# Altium schematic symbol library UPS_Schlib.SchLib: 64 symbols
Pins are listed as number, name and electrical type; pins without a type are passive.

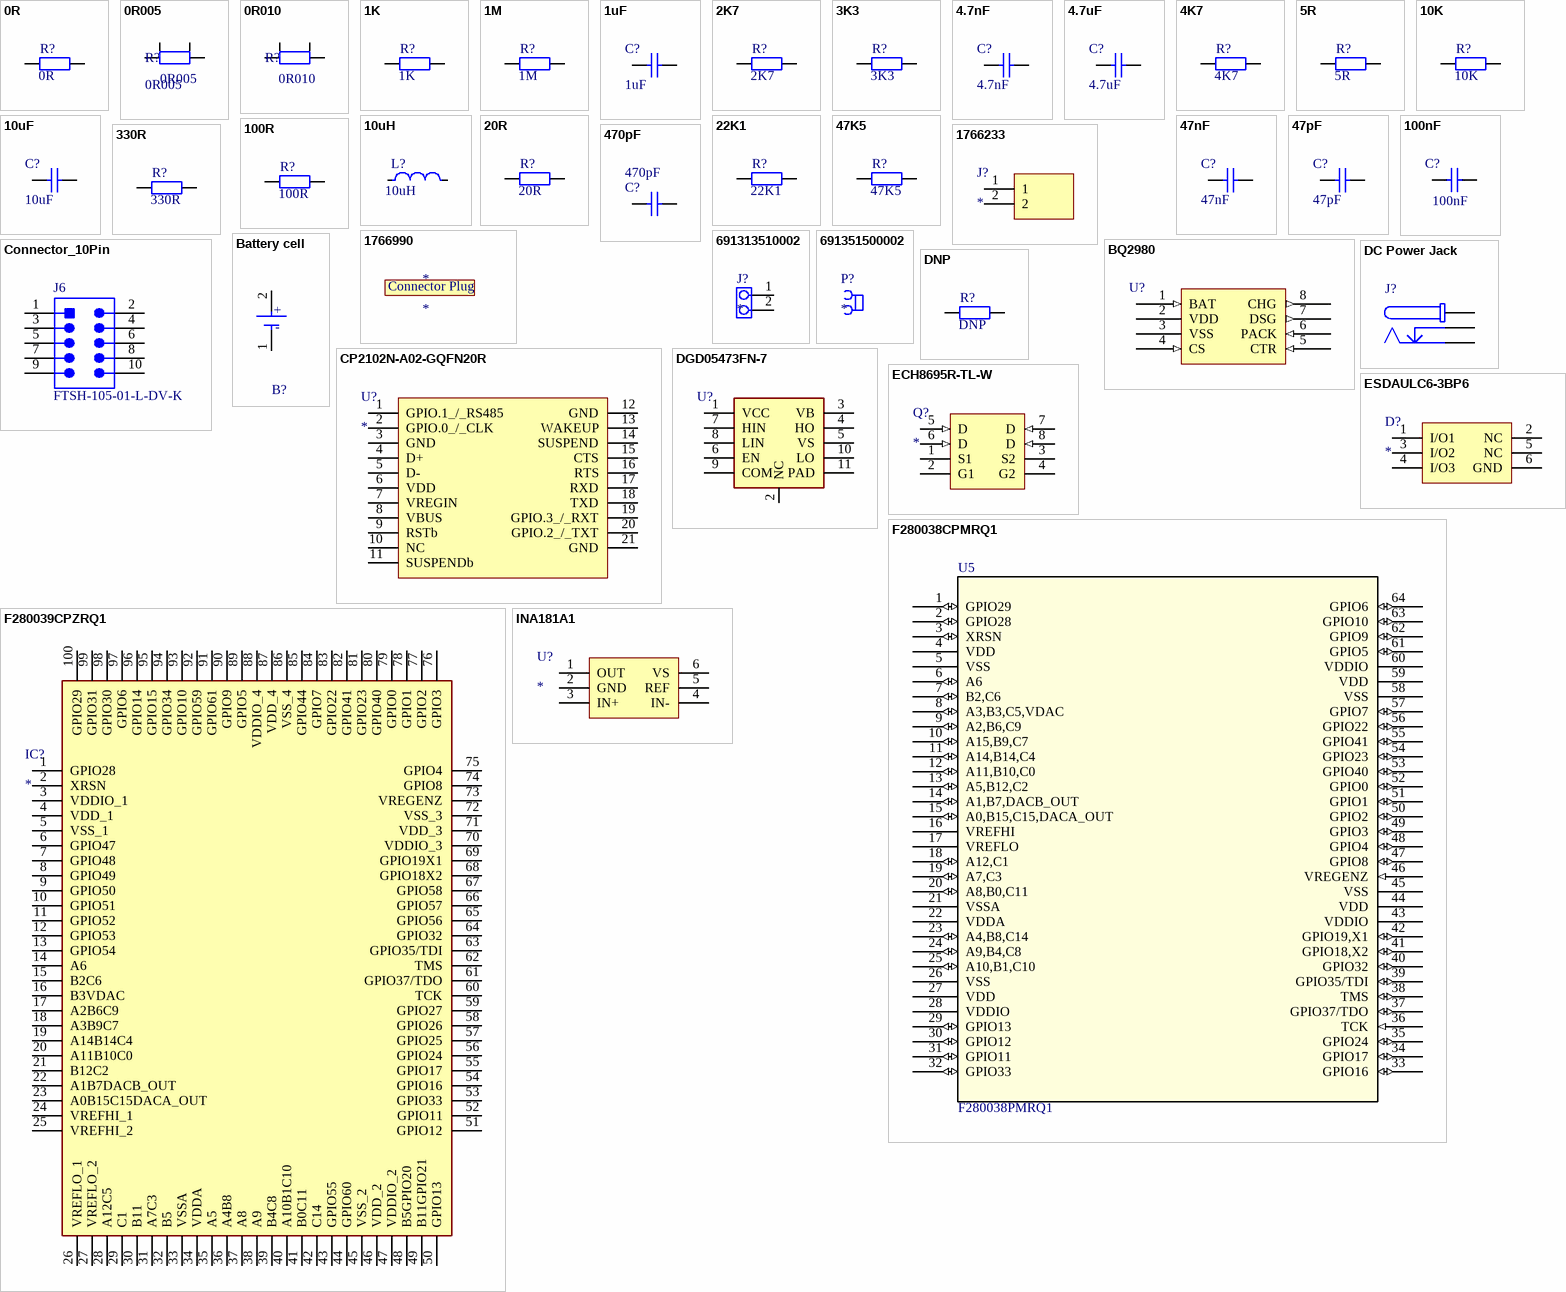
[diagram p0: symbols 0R to INA181A1]

## 0R
designator R?
Resistor; Value: 0R
footprint RES0603 (Resistor 0603 (1608 metric))
pins: 1, 2

## 0R005
designator R?
Resistor Current Sense Metal Foil 1206 5m Ohm 1% 1W ±50ppm/°C T/R; Manufacturer: Eaton; Manufacturer Part Number: MFSA1206R0050FCM; Supplier Part Number: 504-MFSA1206R0050FCM; RoHS: No; Category: Chip SMD Resistors; Stock: 9199; Pricing: 1=0.21, 10=0.173, 50=0.173, 100=0.128, 1000=0.096, 10000=0.062 (USD); Temperature Coefficient: 50ppm/°C; Value: 0R005
footprint RES1206
footprint RES1206_KELVIN (Footprint for 4-wire kelvin voltage measurement.)
pins: 1, 2, 3, 4

## 0R010
designator R?
Resistor Current Sense Metal Foil 1206 10m Ohm 1% 1W ±50ppm/°C T/R; Manufacturer: Eaton; Manufacturer Part Number: MFSA1206R0050FCM; Supplier Part Number: 504-MFSA1206R0050FCM; RoHS: No; Category: Chip SMD Resistors; Stock: 9199; Pricing: 1=0.21, 10=0.173, 50=0.173, 100=0.128, 1000=0.096, 10000=0.062 (USD); Temperature Coefficient: 50ppm/°C; Value: 0R010
footprint RES1206
footprint RES1206_KELVIN (Footprint for 4-wire kelvin voltage measurement.)
pins: 1, 2, 3, 4

## 1K
designator R?
Resistor; Value: 1K
footprint RES0603 (Resistor 0603 (1608 metric))
pins: 1, 2

## 1M
designator R?
Resistor; Value: 1M
footprint RES0603 (Resistor 0603 (1608 metric))
pins: 1, 2

## 1uF
designator C?
Capacitor; Voltage: *; Value: 1uF
footprint CAP0603 (1.6 x 0.8 x 0.8 mm)
pins: 1, 2

## 2K7
designator R?
Resistor; Value: 2K7
footprint RES0603 (Resistor 0603 (1608 metric))
pins: 1, 2

## 3K3
designator R?
Fixed Resistor, Metal Glaze/thick Film, 0.1W, 3300ohm, 75V, 1% +/-Tol, 150ppm/Cel, Surface Mount, 0603; Manufacturer: Yageo; Manufacturer Part Number: RC0603FR-073K3P; Additional Feature: LASER TRIMMABLE; Rated Temperature: 70°C; Temperature Coefficient: 150ppm/°C; Supplier Part Number: 603-RC0603FR-073K3P; RoHS: Yes; Category: Chip SMD Resistors; Stock: 14148; Pricing: 1=0.1, 10=0.017, 50=0.017, 100=0.01, 1000=0.008, 10000=0.004 (USD); Mounting Technology: Surface Mount; Pins: 2; Package Shape: Rectangular; Case/Package: 0603; Terminal Finish: Nickel; Min Operating Temperature: -55°C; Max Operating Temperature: 155°C; JESD-609 Code: e3; Resistor Type: FIXED RESISTOR; Packaging: Tape and Reel; Technology: METAL GLAZE/THICK FILM; Termination: Wraparound; Working Voltage: 75V; Reach SVHC Compliant: Yes; RoHS Compliant: Yes; ComponentLink1URL: https://datasheet.ciiva.com:443/pdfs/VipMasterIC/IC/YAGO/YAGO-S-A0006248068/YAGO-S-A0006248068-1.pdf?src-supplier=IHS+Markit; ComponentLink1Description: https://datasheet.ciiva.com:443/pdfs/VipMasterIC/IC/YAGO/YAGO-S-A0006248068/YAGO-S-A0006248068-1.pdf?src-supplier=IHS+Markit; ComponentLink2URL: http://www.yageo.com.tw/exep/pages/download/literatures/PYu-R_INT-thick_7.pdf?src-supplier=Digikey; ComponentLink2Description: http://www.yageo.com.tw/exep/pages/download/literatures/PYu-R_INT-thick_7.pdf?src-supplier=Digikey; ComponentLink3URL: http://www.yageo.com/NewPortal/yageodocoutput?fileName=/pdf/R-Chip/PYu-RC_51_RoHS_P_0.pdf&src-supplier=Digikey; ComponentLink3Description: http://www.yageo.com/NewPortal/yageodocoutput?fileName=/pdf/R-Chip/PYu-RC_51_RoHS_P_0.pdf&src-supplier=Digikey; Value: 3K3
footprint RES0603 (Resistor 0603 (1608 metric))
pins: 1, 2

## 4.7nF
designator C?
Capacitor; Voltage: *; Value: 4.7nF
footprint CAP0603 (1.6 x 0.8 x 0.8 mm)
pins: 1, 2

## 4.7uF
designator C?
Capacitor; Voltage: *; Value: 4.7uF
footprint CAP0603 (1.6 x 0.8 x 0.8 mm)
pins: 1, 2

## 4K7
designator R?
Resistor; Value: 4K7
footprint RES0603 (Resistor 0603 (1608 metric))
pins: 1, 2

## 5R
designator R?
Resistor; Value: 5R
footprint RES0603 (Resistor 0603 (1608 metric))
pins: 1, 2

## 10K
designator R?
Resistor; Value: 10K
footprint RES0603 (Resistor 0603 (1608 metric))
pins: 1, 2

## 10uF
designator C?
Ceramic Capacitor, Multilayer, Ceramic, 6.3V, 20% +Tol, 20% -Tol, X5R, 15% TC, 10uF, Surface Mount, 0603; Manufacturer: Samsung; Manufacturer Part Number: CL10A106MQ8NNND; Multilayer: Yes; Voltage: *; Supplier: Mouser; Supplier Part Number: 187-CL10A106MQ8NNND; RoHS: Yes; Category: Ceramic Capacitors; Stock: 103768; Pricing: 1=0.1, 10=0.066, 50=0.066, 100=0.031, 1000=0.019, 10000=0.014 (USD); Mounting Technology: Surface Mount; Pins: 2; Dielectric Material: Ceramic; Package Shape: Rectangular; Case/Package: 0603; Terminal Finish: Nickel; Min Operating Temperature: -55°C; Max Operating Temperature: 85°C; JESD-609 Code: e3; Capacitor Type: Ceramic; Tolerance  (fill in as +-): 20%; Package Style: SMTMeter; Packaging: Tape and Reel; Tolerance (fill in as +-): 20%; Rated DC Voltage (URdc): 6.3V; Temperature Characteristics Code: X5R; Termination: Wraparound; Length: 1.6mm; Width: 0.8mm; Height: 0.8mm; Reach SVHC Compliant: Yes; RoHS Compliant: Yes; ComponentLink1URL: https://datasheet.ciiva.com:443/pdfs/VipMasterIC/IC/SEMS/SEMS-S-A0008522793/SEMS-S-A0008522909-1.pdf?src-supplier=IHS+Markit; ComponentLink1Description: https://datasheet.ciiva.com:443/pdfs/VipMasterIC/IC/SEMS/SEMS-S-A0008522793/SEMS-S-A0008522909-1.pdf?src-supplier=IHS+Markit; Value: 10uF
footprint CAP0603 (1.6 x 0.8 x 0.8 mm)
pins: 1, 2

## 10uH
designator L?, comment value 10uH  (hidden comment: Inductor)
General Purpose Inductor, 10uH, 20%, SMD 0603; Manufacturer: TDK; Manufacturer Part Number: MLZ1608E100MT000; Manufacturer Series: MLZ; Case/Size Code: 1608; DC Resistance (DCR): 900mR; Inductor Application: POWER INDUCTOR; Channels: 1; Max Current Rating: 40mA; Self Resonant Frequency: 30MHz; Shape/Size Description: RECTANGULAR PACKAGE; Shielding: Shielded; Test Frequency: 2MHz; Supplier: Arrow Electronics; Supplier Part Number: MLZ1608E100MT000; RoHS: Yes; Category: Fixed Inductors; Stock: 783; Pricing: 783=0.0324 (USD); Pins: 2; Terminal Finish: Tin; Min Operating Temperature: -55°C; Max Operating Temperature: 125°C; Tolerance: 20%; Inductance-Nom (L): 10uH; Inductor Type: GENERAL PURPOSE INDUCTOR; Surface Mount: Yes; Terminal Placement: Dual Ended; Termination: Wraparound; JESD-609 Code: e3; Reach SVHC Compliant: Yes; RoHS Compliant: Yes; ComponentLink1URL: https://datasheet.ciiva.com:443/pdfs/VipMasterIC/IC/TDKC/TDKCS07657/TDKCS07657-1.pdf?src-supplier=IHS+Markit; ComponentLink1Description: https://datasheet.ciiva.com:443/pdfs/VipMasterIC/IC/TDKC/TDKCS07657/TDKCS07657-1.pdf?src-supplier=IHS+Markit
footprint IND0603
pins: 1, 2

## 20R
designator R?
Resistor; Value: 20R
footprint RES0603 (Resistor 0603 (1608 metric))
pins: 1, 2

## 22K1
designator R?
Resistor; Value: 22K1
footprint RES0603 (Resistor 0603 (1608 metric))
pins: 1, 2

## 47K5
designator R?
Resistor; Value: 47K5
footprint RES0603 (Resistor 0603 (1608 metric))
pins: 1, 2

## 47nF
designator C?
Capacitor; Voltage: *; Value: 47nF
footprint CAP0603 (1.6 x 0.8 x 0.8 mm)
pins: 1, 2

## 47pF
designator C?
Ceramic Capacitor, Multilayer, Ceramic, 100V, 5% +Tol, 5% -Tol, C0G, 30ppm/Cel TC, 0.000047uF, Surface Mount, 0603; Manufacturer: KEMET; Manufacturer Part Number: C0603C470J1GACTU; Multilayer: Yes; Voltage: *; Supplier: Mouser; Supplier Part Number: 80-C0603C470J1G; RoHS: Yes; Category: Ceramic Capacitors; Stock: 43381; Pricing: 1=0.1, 10=0.026, 50=0.026, 100=0.016, 1000=0.012, 10000=0.007 (USD); Mounting Technology: Surface Mount; Pins: 2; Dielectric Material: Ceramic; Package Shape: Rectangular; Case/Package: 0603; Terminal Finish: Nickel; Min Operating Temperature: -55°C; Max Operating Temperature: 125°C; JESD-609 Code: e3; Capacitor Type: Ceramic; Tolerance  (fill in as +-): 5%; Package Style: SMTMeter; Packaging: Tape and Reel; Tolerance (fill in as +-): 5%; Rated DC Voltage (URdc): 100V; Temperature Characteristics Code: C0G; Termination: Wraparound; Length: 1.6mm; Width: 0.8mm; Height: 0.8mm; Reach SVHC Compliant: Yes; RoHS Compliant: Yes; ComponentLink1URL: https://datasheet.ciiva.com:443/pdfs/VipMasterIC/IC/KEME/KEME-S-A0005605168/KEME-S-A0005605168-1.pdf?src-supplier=IHS+Markit; ComponentLink1Description: https://datasheet.ciiva.com:443/pdfs/VipMasterIC/IC/KEME/KEME-S-A0005605168/KEME-S-A0005605168-1.pdf?src-supplier=IHS+Markit; ComponentLink2URL: https://datasheet.ciiva.com/28668/1789732-28668693.pdf?src-supplier=Element14; ComponentLink2Description: https://datasheet.ciiva.com/28668/1789732-28668693.pdf?src-supplier=Element14; ComponentLink3URL: https://datasheet.ciiva.com/18193/getdatasheetpartid-544691-18193046.pdf?src-supplier=Verical; ComponentLink3Description: https://datasheet.ciiva.com/18193/getdatasheetpartid-544691-18193046.pdf?src-supplier=Verical; ComponentLink4URL: https://datasheet.ciiva.com/18101/getdatasheetpartid-38001-18101098.pdf?src-supplier=Verical; ComponentLink4Description: https://datasheet.ciiva.com/18101/getdatasheetpartid-38001-18101098.pdf?src-supplier=Verical; Value: 47pF
footprint CAP0603 (1.6 x 0.8 x 0.8 mm)
pins: 1, 2

## 100nF
designator C?
Capacitor; Voltage: *; Value: 100nF
footprint CAP0603 (1.6 x 0.8 x 0.8 mm)
pins: 1, 2

## 100R
designator R?
Resistor; Value: 100R
footprint RES0603 (Resistor 0603 (1608 metric))
pins: 1, 2

## 330R
designator R?
Resistor; Value: 330R
footprint RES0603 (Resistor 0603 (1608 metric))
pins: 1, 2

## 470pF
designator C?
Ceramic Capacitor, Multilayer, Ceramic, 250V, 5% +Tol, 5% -Tol, C0G, 30ppm/Cel TC, 0.00047uF, Surface Mount, 0603; Manufacturer: KEMET; Manufacturer Part Number: C0603C471JAGACAUTO; Multilayer: Yes; Reference Standard: AEC-Q200; Supplier: Mouser; Supplier Part Number: 80-C0603C471JAGAUTO; RoHS: Yes; Category: Ceramic Capacitors; Stock: 51887; Pricing: 1=0.1, 10=0.068, 50=0.068, 100=0.034, 1000=0.022, 10000=0.017 (USD); Pins: 2; Dielectric Material: Ceramic; Case/Package: 0603; Terminal Finish: Nickel; Min Operating Temperature: -55°C; Max Operating Temperature: 125°C; JESD-609 Code: e3; Capacitor Type: Ceramic; Tolerance  (fill in as +-): 5%; Package Style: SMTMeter; Packaging: Tape and Reel; Tolerance (fill in as +-): 5%; Rated DC Voltage (URdc): 250V; Temperature Characteristics Code: C0G; Length: 1.6mm; Width: 0.8mm; Height: 0.8mm; Reach SVHC Compliant: Yes; RoHS Compliant: Yes; ComponentLink1URL: https://datasheet.ciiva.com:443/pdfs/VipMasterIC/IC/KEME/KEME-S-A0008958445/KEME-S-A0008958445-1.pdf?src-supplier=IHS+Markit; ComponentLink1Description: https://datasheet.ciiva.com:443/pdfs/VipMasterIC/IC/KEME/KEME-S-A0008958445/KEME-S-A0008958445-1.pdf?src-supplier=IHS+Markit; ComponentLink2URL: http://www.mouser.com/ds/2/212/KEM_C1086_U2J-962528.pdf?src-supplier=Mouser; ComponentLink2Description: http://www.mouser.com/ds/2/212/KEM_C1086_U2J-962528.pdf?src-supplier=Mouser; ComponentLink3URL: http://www.kemet.com/Lists/ProductCatalog/Attachments/420/KEM_C1022_C0G_AUTO_SMD.pdf?src-supplier=Digikey; ComponentLink3Description: http://www.kemet.com/Lists/ProductCatalog/Attachments/420/KEM_C1022_C0G_AUTO_SMD.pdf?src-supplier=Digikey; ComponentLink4URL: https://api.kemet.com/component-edge/download/datasheet/C0603C471JAGACAUTO.pdf?src-supplier=Digikey; ComponentLink4Description: https://api.kemet.com/component-edge/download/datasheet/C0603C471JAGACAUTO.pdf?src-supplier=Digikey; Value: 470pF
footprint CAP0603 (1.6 x 0.8 x 0.8 mm)
pins: 1, 2

## 1766233
designator J?
Phoenix Contact, Strip Terminal Block, 12A, 1 Row(s), 1 Deck(s); Manufacturer_Part_Number: 1766233; Number of Decks: 1; Number of Ways: 2; Voltage Rating: 400V; Safety Approval: UL; Datasheet Link: http://www.phoenixcontact.com/de/produkte/1766233/pdf; Height: 7.67mm; Manufacturer_Name: Phoenix Contact; Mouser Part Number: 651-1766233; Mouser Price/Stock: https://www.mouser.co.uk/ProductDetail/Phoenix-Contact/1766233?qs=nFvZQsPh5NH5GN9WWXVfYg%3D%3D; Arrow Part Number: 1766233; Arrow Price/Stock: https://www.arrow.com/en/products/1766233/phoenix-contact?region=nac; Supplier: Mouser; Supplier Part Number: 651-1766233; Manufacturer: Phoenix Contact; Manufacturer Part Number: 1766233; RoHS: Yes; Category: Terminal Blocks; Stock: 589; Pricing: 1=1.22, 10=1.22, 50=1.14, 100=1.07, 1000=0.928, 10000=0.918 (USD); Mounting Technology: Board; Number of Rows: 1; Current Rating: 12A; Terminal and Terminal Block Type: STRIP TERMINAL BLOCK; Reach SVHC Compliant: Yes; RoHS Compliant: Yes; ComponentLink1URL: https://www.phoenixcontact.com:443/online/portal/us?uri=pxc-oc-itemdetail%3apid%3d1766233&library=usen&pcck=P-11-02-11&tab=1&src-supplier=IHS+Markit; ComponentLink1Description: https://www.phoenixcontact.com:443/online/portal/us?uri=pxc-oc-itemdetail%3apid%3d1766233&library=usen&pcck=P-11-02-11&tab=1&src-supplier=IHS+Markit; ComponentLink2URL: https://datasheet.ciiva.com/16096/1766233-16096574.pdf?src-supplier=Onlinecomponents.com; ComponentLink2Description: https://datasheet.ciiva.com/16096/1766233-16096574.pdf?src-supplier=Onlinecomponents.com; ComponentLink3URL: https://datasheet.ciiva.com/6754/1766233-6754043.pdf?src-supplier=Digikey; ComponentLink3Description: https://datasheet.ciiva.com/6754/1766233-6754043.pdf?src-supplier=Digikey; ComponentLink4URL: https://datasheet.ciiva.com/29210/569305-da-01-en-grundgehaeuse-1766233-250-st-29210521.pdf?src-supplier=Conrad; ComponentLink4Description: https://datasheet.ciiva.com/29210/569305-da-01-en-grundgehaeuse-1766233-250-st-29210521.pdf?src-supplier=Conrad
footprint GMSTBA 2,5/ 2-G-7,62 (Phoenix Xontact PCB header,)
pins: 1, 2

## 1766990
designator *  (mechanical)
Barrier Strip Terminal Block, 12A, 2.5mm2, 1 Row(s), 1 Deck(s); Manufacturer: Phoenix Contact; Manufacturer Part Number: 1766990; Fastening Method: SCREW; Number of Decks: 1; Number of Ways: 2; Voltage Rating: 630V; Wire/Cable Gauge: 12AWG; Safety Approval: UL,CSA,VDE,CUL,CB,EAC; Supplier: Mouser; Supplier Part Number: 651-1766990; RoHS: Yes; Category: Terminal Blocks; Stock: 3085; Pricing: 1=3.77, 10=3.22, 50=2.87, 100=2.76, 1000=2.74, 10000=2.73 (USD); Mounting Technology: Panel; Number of Rows: 1; Current Rating: 12A; Terminal and Terminal Block Type: BARRIER STRIP TERMINAL BLOCK; Wire Cross Section: 2.5mm2; RoHS Compliant: Yes; Reach SVHC Compliant: Yes; ComponentLink1URL: https://www.phoenixcontact.com:443/online/portal/us?uri=pxc-oc-itemdetail%3apid%3d1766990&library=usen&pcck=P-11-02-11&tab=1&src-supplier=IHS+Markit; ComponentLink1Description: https://www.phoenixcontact.com:443/online/portal/us?uri=pxc-oc-itemdetail%3apid%3d1766990&library=usen&pcck=P-11-02-11&tab=1&src-supplier=IHS+Markit; ComponentLink2URL: https://datasheet.ciiva.com/14148/04845418-14148188.pdf?src-supplier=Distrelec; ComponentLink2Description: https://datasheet.ciiva.com/14148/04845418-14148188.pdf?src-supplier=Distrelec; ComponentLink3URL: https://datasheet.ciiva.com/6754/1766990-6754578.pdf?src-supplier=Digikey; ComponentLink3Description: https://datasheet.ciiva.com/6754/1766990-6754578.pdf?src-supplier=Digikey; ComponentLink4URL: https://datasheet.ciiva.com/15197/getdatasheetpartid-511347-15197378.pdf?src-supplier=Verical; ComponentLink4Description: https://datasheet.ciiva.com/15197/getdatasheetpartid-511347-15197378.pdf?src-supplier=Verical; ComponentLink5URL: https://datasheet.ciiva.com/16071/1766990-16071535.pdf?src-supplier=Onlinecomponents.com; ComponentLink5Description: https://datasheet.ciiva.com/16071/1766990-16071535.pdf?src-supplier=Onlinecomponents.com; ComponentLink6URL: https://datasheet.ciiva.com/29221/568999-da-01-en-steckerteil-1766990-50-st-29221893.pdf?src-supplier=Conrad; ComponentLink6Description: https://datasheet.ciiva.com/29221/568999-da-01-en-steckerteil-1766990-50-st-29221893.pdf?src-supplier=Conrad
text: Connector Plug

## 691313510002
designator J?
Wurth Elektronik, 2 Pin Pluggable Terminal Block, Male; Manufacturer_Part_Number: 691313510002; Manufacturer: Wurth Electronics; Manufacturer Series: 313; Fastening Method: CONNECTOR; Number of Decks: 1; Number of Ways: 2; Current Rating: 20A; Voltage Rating: 300V; Safety Approval: UL,VDE; Datasheet Link: https://www.we-online.de/katalog/datasheet/6913135100xx.pdf; Height: 8.5mm; Manufacturer_Name: Wurth Elektronik; Mouser Part Number: 710-691313510002; Mouser Price/Stock: https://www.mouser.co.uk/ProductDetail/Wurth-Elektronik/691313510002?qs=2kOmHSv6VfR6BrMDgUh3kQ%3D%3D; Supplier: Mouser; Supplier Part Number: 710-691313510002; Manufacturer Part Number: 691313510002; RoHS: Yes; Category: Terminal Blocks; Stock: 1885; Pricing: 1=0.35, 10=0.315, 50=0.295, 100=0.295, 1000=0.295, 10000=0.294 (USD); Mounting Technology: Board; Number of Rows: 1; Terminal and Terminal Block Type: STRIP TERMINAL BLOCK; Reach SVHC Compliant: Yes; RoHS Compliant: Yes; ComponentLink1URL: https://datasheet.ciiva.com:443/pdfs/VipMasterIC/IC/MIDC/MIDC-S-A0008053020/MIDC-S-A0008053020-1.pdf?src-supplier=IHS+Markit; ComponentLink1Description: https://datasheet.ciiva.com:443/pdfs/VipMasterIC/IC/MIDC/MIDC-S-A0008053020/MIDC-S-A0008053020-1.pdf?src-supplier=IHS+Markit; ComponentLink2URL: https://datasheet.ciiva.com/8043/1442232-8043521.pdf?src-supplier=Element14; ComponentLink2Description: https://datasheet.ciiva.com/8043/1442232-8043521.pdf?src-supplier=Element14; ComponentLink3URL: https://datasheet.ciiva.com/795/6913135100xx-795821.pdf?src-supplier=Digikey; ComponentLink3Description: https://datasheet.ciiva.com/795/6913135100xx-795821.pdf?src-supplier=Digikey
footprint WR-TBL-5.08/2-M (Wurth Elektronik, 2 Pin Pluggable Terminal Block, Male)
pins: 1, 2

## 691351500002
designator P?  (mechanical)
Wurth Elektronik, 2 Pin Pluggable Terminal Block, Female; Manufacturer: Wurth Electronics; Manufacturer Part Number: 691351500002; Manufacturer Series: 3515; ComponentLink1URL: https://datasheet.ciiva.com:443/pdfs/VipMasterIC/IC/MIDC/MIDC-S-A0008053020/MIDC-S-A0008053020-1.pdf?src-supplier=IHS+Markit; ComponentLink1Description: https://datasheet.ciiva.com:443/pdfs/VipMasterIC/IC/MIDC/MIDC-S-A0008053020/MIDC-S-A0008053020-1.pdf?src-supplier=IHS+Markit; ComponentLink2URL: https://datasheet.ciiva.com/8043/1442232-8043521.pdf?src-supplier=Element14; ComponentLink2Description: https://datasheet.ciiva.com/8043/1442232-8043521.pdf?src-supplier=Element14; ComponentLink3URL: https://datasheet.ciiva.com/795/6913135100xx-795821.pdf?src-supplier=Digikey; ComponentLink3Description: https://datasheet.ciiva.com/795/6913135100xx-795821.pdf?src-supplier=Digikey; Supplier: Mouser; Supplier Part Number: 710-691351500002; RoHS: Yes; Category: Terminal Blocks; Stock: 2108; Pricing: 1=1.03, 10=0.919, 50=0.87, 100=0.87, 1000=0.87, 10000=0.87 (USD); Terminal and Terminal Block Type: BARRIER STRIP TERMINAL BLOCK; Reach SVHC Compliant: No; RoHS Compliant: Yes; ComponentLink4URL: https://datasheet.ciiva.com:443/pdfs/VipMasterIC/IC/MIDC/MIDCS16685/MIDCS16685-1.pdf?src-supplier=IHS+Markit; ComponentLink4Description: https://datasheet.ciiva.com:443/pdfs/VipMasterIC/IC/MIDC/MIDCS16685/MIDCS16685-1.pdf?src-supplier=IHS+Markit; ComponentLink5URL: https://datasheet.ciiva.com/7992/624595-7992355.pdf?src-supplier=Element14; ComponentLink5Description: https://datasheet.ciiva.com/7992/624595-7992355.pdf?src-supplier=Element14; ComponentLink6URL: https://datasheet.ciiva.com/796/6913515000xx-796118.pdf?src-supplier=Digikey; ComponentLink6Description: https://datasheet.ciiva.com/796/6913515000xx-796118.pdf?src-supplier=Digikey; ComponentLink7URL: https://datasheet.ciiva.com/48686/001088727-da-01-en-wr-tbl-terminal-block351-691351500002-48686810.pdf?src-supplier=Conrad; ComponentLink7Description: https://datasheet.ciiva.com/48686/001088727-da-01-en-wr-tbl-terminal-block351-691351500002-48686810.pdf?src-supplier=Conrad
footprint WR-TBL-5.08/2-F (Wurth Elektronik, 2 Pin Pluggable Terminal Block, Female)

## Battery cell
designator B?
footprint Single battery cell holder (18650 single battery cell holder)
pins: 1 C, 2 A
text: +; -

## BQ2980
designator U?
Battery Management High-side protector for single-cell li-ion and li-polymer batteries
footprint X2QFN-8 (QFN, 8-Leads, Body 1.5x1.5mm, Pitch 0.5mm, TI Recommended)
pins: 1 BAT (in), 2 VDD (power), 3 VSS, 4 CS (in), 5 CTR (in), 6 PACK (in), 7 DSG (out), 8 CHG (out)

## Connector_10Pin
designator J6, comment FTSH-105-01-L-DV-K
Smt Micro Header; Manufacturer: Samtec; Gender: Male; Max Voltage: 0V; Current capacity: 3.4A; Safety Related: No; Order Code: 200-FTSH10501LDVK; RoHS Compliant: Yes; Min Operating Temperature: -55°C; Mounting Technology: SMD; Pins: 10; Connector Type: Header; Max Operating Temperature: 125°C; Distributor: Mouser; Package: SMD; CompType: FTSH-105-01-L-DV-K
footprint CON-2x5-1.27 (2x5 pin connector with 1.27 mm pitch)
pins: 1, 2, 3, 4, 5, 6, 7, 8, 9, 10

## CP2102N-A02-GQFN20R
designator U?
USB-UART Bridge; Manufacturer_Name: Silicon Labs; Manufacturer_Part_Number: CP2102N-A02-GQFN20R; Datasheet Link: https://www.silabs.com/documents/public/data-sheets/cp2102n-datasheet.pdf; Height: 0.8mm; Mouser Part Number: 634-CP2102NA02QFN20R; Mouser Price/Stock: https://www.mouser.co.uk/ProductDetail/Silicon-Labs/CP2102N-A02-GQFN20R?qs=u16ybLDytRbf2uwPkMBdUg%3D%3D; Arrow Part Number: CP2102N-A02-GQFN20R; Arrow Price/Stock: https://www.arrow.com/en/products/cp2102n-a02-gqfn20r/silicon-labs?utm_currency=USD&region=nac
footprint QFN-20
pins: 1 GPIO.1_/_RS485, 2 GPIO.0_/_CLK, 3 GND, 4 D+, 5 D-, 6 VDD, 7 VREGIN, 8 VBUS, 9 RSTb, 10 NC, 11 SUSPENDb, 12 GND, 13 WAKEUP, 14 SUSPEND, 15 CTS, 16 RTS, 17 RXD, 18 TXD, 19 GPIO.3_/_RXT, 20 GPIO.2_/_TXT, 21 GND

## DC Power Jack
designator J?
CIRCULAR DC POWER CONNECTOR; Manufacturer: Wurth Electronics; Manufacturer Part Number: 694106301002; Connector Type: Circular,Power; Supplier: Rs; Supplier Part Number: 1224879; RoHS: Yes; Category: Power Connectors; Stock: 1650; Contact Finish - Mating: NOT SPECIFIED; Reach SVHC Compliant: Yes; RoHS Compliant: Yes; ComponentLink1URL: https://datasheet.ciiva.com:443/pdfs/VipMasterIC/IC/MIDC/MIDC-S-A0001192814/MIDC-S-A0001192814-1.pdf?src-supplier=IHS+Markit; ComponentLink1Description: https://datasheet.ciiva.com:443/pdfs/VipMasterIC/IC/MIDC/MIDC-S-A0001192814/MIDC-S-A0001192814-1.pdf?src-supplier=IHS+Markit; ComponentLink2URL: http://www.mouser.com/ds/2/445/6941xx301002-469315.pdf?src-supplier=Mouser; ComponentLink2Description: http://www.mouser.com/ds/2/445/6941xx301002-469315.pdf?src-supplier=Mouser; ComponentLink3URL: http://www.farnell.com/cad/2130967.pdf?src-supplier=Element14; ComponentLink3Description: http://www.farnell.com/cad/2130967.pdf?src-supplier=Element14; ComponentLink4URL: https://katalog.we-online.de/em/datasheet/6941xx301002.pdf?src-supplier=Digikey; ComponentLink4Description: https://katalog.we-online.de/em/datasheet/6941xx301002.pdf?src-supplier=Digikey
footprint DC Power Jack Right Angled (DC Power Jack Right Angled(6.4))
pins: 1, 2, 3

## DGD05473FN-7
designator U?  (value not drawn)
HIGH FREQUENCY HIGH-SIDE AND LOW-SIDE GATE DRIVER; Manufacturer_Name: Diodes Incorporated; Manufacturer_Part_Number: DGD05473FN-7; Datasheet Link: https://www.diodes.com/assets/Datasheets/DGD05473.pdf; Height: 0.8mm; Mouser Part Number: 621-DGD05473FN-7; Mouser Price/Stock: https://www.mouser.co.uk/ProductDetail/Diodes-Incorporated/DGD05473FN-7?qs=W0yvOO0ixfECV6JdMBa%2F6g%3D%3D; Arrow Part Number: DGD05473FN-7; Arrow Price/Stock: https://www.arrow.com/en/products/dgd05473fn-7/diodes-incorporated?region=nac
footprint V-DFN3030-10 (V-DFN3030-10, SON50P300X300X80-11N-D / For DGD05473 IC)
pins: 1 VCC, 2 NC, 3 VB, 4 HO, 5 VS, 6 EN, 7 HIN, 8 LIN, 9 COM, 10 LO, 11 PAD

## DNP
designator R?
Resistor; Value: DNP
footprint RES0603 (Resistor 0603 (1608 metric))
pins: 1, 2

## ECH8695R-TL-W
designator Q?
1-2 Cells Lithium-ion Battery Protection; Manufacturer_Name: onsemi; Manufacturer_Part_Number: ECH8695R-TL-W; Datasheet Link: https://datasheet.datasheetarchive.com/originals/distributors/DKDS-17/338047.pdf; Height: 0.95mm; Mouser Part Number: 863-ECH8695R-TL-W; Mouser Price/Stock: https://www.mouser.co.uk/ProductDetail/ON-Semiconductor/ECH8695R-TL-W?qs=dbuNSGnowt2koJiK%2FkW5Eg%3D%3D; Arrow Part Number: ECH8695R-TL-W; Arrow Price/Stock: https://www.arrow.com/en/products/ech8695r-tl-w/on-semiconductor?region=europe
footprint SOT-28FL (SOT-28FL / ECH8 / SOT65P280X95-8N)
pins: 1 S1, 2 G1, 3 S2, 4 G2, 5 D (in), 6 D (in), 7 D (in), 8 D (in)

## ESDAULC6-3BP6
designator D?
TVS Diode (Bi-directional); Manufacturer_Name: STMicroelectronics; Manufacturer_Part_Number: ESDAULC6-3BP6; Datasheet Link: https://www.st.com/resource/en/datasheet/esdaulc6-3bp6.pdf; Height: 0.6mm; Mouser Part Number: 511-ESDAULC63BP6; Mouser Price/Stock: https://www.mouser.co.uk/ProductDetail/STMicroelectronics/ESDAULC6-3BP6?qs=eU2TTeT5rM3P6hIT2KJeMw%3D%3D; Arrow Part Number: ESDAULC6-3BP6; Arrow Price/Stock: https://www.arrow.com/en/products/esdaulc6-3bp6/stmicroelectronics?region=europe
footprint SOT-666
pins: 1 I/O1, 2 NC, 3 I/O2, 4 I/O3, 5 NC, 6 GND

## F280038CPMRQ1
designator U5, comment F280038PMRQ1
Automotive C2000™ 32-bit MCU 120-MHz 384-KB flash, FPU, TMU with CLA, AES and CAN-FD; Mfr_Name: Texas Instruments; CompType: TMS320F280038-Q1; Type: DEV; Copyright: Copyright (C) 2023 Ultra Librarian. All rights reserved.; Manufacturer_Part_Number: F280038PMRQ1; RefDes: RefDes; Footprint: LQFP64; Distributor: TI
footprint LQFP-64 (QFP50P1200X1200X160-64N)
pins: 1 GPIO29 (io), 2 GPIO28 (io), 3 XRSN (io), 4 VDD (power), 5 VSS (power), 6 A6 (io), 7 B2,C6 (io), 8 A3,B3,C5,VDAC (io), 9 A2,B6,C9 (io), 10 A15,B9,C7 (io), 11 A14,B14,C4 (io), 12 A11,B10,C0 (io), 13 A5,B12,C2 (io), 14 A1,B7,DACB_OUT (io), 15 A0,B15,C15,DACA_OUT (io), 16 VREFHI (power), 17 VREFLO (power), 18 A12,C1 (io), 19 A7,C3 (io), 20 A8,B0,C11 (io), 21 VSSA (power), 22 VDDA (power), 23 A4,B8,C14 (io), 24 A9,B4,C8 (io), 25 A10,B1,C10 (io), 26 VSS (power), 27 VDD (power), 28 VDDIO (power), 29 GPIO13 (io), 30 GPIO12 (io), 31 GPIO11 (io), 32 GPIO33 (io), 33 GPIO16 (io), 34 GPIO17 (io), 35 GPIO24 (io), 36 TCK (in), 37 GPIO37/TDO (io), 38 TMS (io), 39 GPIO35/TDI (io), 40 GPIO32 (io), 41 GPIO18,X2 (io), 42 GPIO19,X1 (io), 43 VDDIO (power), 44 VDD (power), 45 VSS (power), 46 VREGENZ (in), 47 GPIO8 (io), 48 GPIO4 (io), 49 GPIO3 (io), 50 GPIO2 (io), 51 GPIO1 (io), 52 GPIO0 (io), 53 GPIO40 (io), 54 GPIO23 (io), 55 GPIO41 (io), 56 GPIO22 (io), 57 GPIO7 (io), 58 VSS (power), 59 VDD (power), 60 VDDIO (power), 61 GPIO5 (io), 62 GPIO9 (io), 63 GPIO10 (io), 64 GPIO6 (io)

## F280039CPZRQ1
designator IC?
Integrated Circuit; Manufacturer_Name: Texas Instruments; Manufacturer_Part_Number: F280039CPZRQ1; Datasheet Link: https://www.ti.com/lit/ds/symlink/tms320f280039c-q1.pdf?ts=1689761000552&ref_url=https%253A%252F%252Fwww.ti.com%252Fproduct%252FTMS320F280039C-Q1%252Fpart-details%252FF280039CPZQ1; Height: 1.6mm; Mouser Part Number: 595-F280039CPZRQ1; Mouser Price/Stock: https://www.mouser.co.uk/ProductDetail/Texas-Instruments/F280039CPZRQ1?qs=vvQtp7zwQdMSACQiDMJBjQ%3D%3D; Arrow Part Number: F280039CPZRQ1; Arrow Price/Stock: https://www.arrow.com/en/products/f280039cpzrq1/texas-instruments?region=europe
footprint LQFP-100 (0.127mm pitch)
pins: 1 GPIO28, 2 XRSN, 3 VDDIO_1, 4 VDD_1, 5 VSS_1, 6 GPIO47, 7 GPIO48, 8 GPIO49, 9 GPIO50, 10 GPIO51, 11 GPIO52, 12 GPIO53, 13 GPIO54, 14 A6, 15 B2C6, 16 B3VDAC, 17 A2B6C9, 18 A3B9C7, 19 A14B14C4, 20 A11B10C0, 21 B12C2, 22 A1B7DACB_OUT, 23 A0B15C15DACA_OUT, 24 VREFHI_1, 25 VREFHI_2, 26 VREFLO_1, 27 VREFLO_2, 28 A12C5, 29 C1, 30 B11, 31 A7C3, 32 B5, 33 VSSA, 34 VDDA, 35 A5, 36 A4B8, 37 A8, 38 A9, 39 B4C8, 40 A10B1C10, 41 B0C11, 42 C14, 43 GPIO55, 44 GPIO60, 45 VSS_2, 46 VDD_2, 47 VDDIO_2, 48 B5GPIO20, 49 B11GPIO21, 50 GPIO13, 51 GPIO12, 52 GPIO11, 53 GPIO33, 54 GPIO16, 55 GPIO17, 56 GPIO24, 57 GPIO25, 58 GPIO26, 59 GPIO27, 60 TCK, 61 GPIO37/TDO, 62 TMS, 63 GPIO35/TDI, 64 GPIO32, 65 GPIO56, 66 GPIO57, 67 GPIO58, 68 GPIO18X2, 69 GPIO19X1, 70 VDDIO_3, 71 VDD_3, 72 VSS_3, 73 VREGENZ, 74 GPIO8, 75 GPIO4, 76 GPIO3, 77 GPIO2, 78 GPIO1, 79 GPIO0, 80 GPIO40, 81 GPIO23, 82 GPIO41, 83 GPIO22, 84 GPIO7, 85 GPIO44, 86 VSS_4, 87 VDD_4, 88 VDDIO_4, 89 GPIO5, 90 GPIO9, 91 GPIO61, 92 GPIO59, 93 GPIO10, 94 GPIO34, 95 GPIO15, 96 GPIO14, 97 GPIO6, 98 GPIO30, 99 GPIO31, 100 GPIO29

## INA181A1
designator U?
Operational Amplifier, 1 Func, 500uV Offset-Max, PDSO6; Manufacturer: Texas Instruments; Manufacturer Part Number: INA181A1IDBVR; Package Body Material: Plastic; Average Bias Current-Max (IIB): 75uA; Common-mode Reject Ratio-Nom: 100dB; Channels: 1; Slew Rate: 2V/µs; Supply Voltage Limit-Max: 5.5V; Nominal Supply Voltage: 5V; Unity Gain BW-Nom: 350kHz; Supplier: Mouser; Supplier Part Number: 595-INA181A1IDBVR; RoHS: Yes; Category: Amplifiers - Op Amps, Buffer, Instrumentation; Stock: 103029; Pricing: 1=0.43, 10=0.256, 50=0.256, 100=0.198, 1000=0.169, 10000=0.147 (USD); Case/Package: SOP; Pins: 6; Package Shape: Rectangular; Terminal Finish: Tin; Min Operating Temperature: -40°C; Max Operating Temperature: 125°C; JESD-609 Code: e3; Amplifier Type: OPERATIONAL AMPLIFIER; Input Offset Voltage-Max: 500uV; JESD-30 Code: R-PDSO-G6; Moisture Sensitivity Level: 1; Package Style: SMALL OUTLINEMeter; Peak Reflow Temperature (Cel): 260°C; Surface Mount: Yes; Terminal Form: Gull Wing; Terminal Position: DUAL; Temperature Grade: AUTOMOTIVE; Reach SVHC Compliant: Yes; RoHS Compliant: Yes; ComponentLink1URL: https://www.ti.com:443/lit/ds/symlink/ina181.pdf?src-supplier=IHS+Markit; ComponentLink1Description: https://www.ti.com:443/lit/ds/symlink/ina181.pdf?src-supplier=IHS+Markit; ComponentLink2URL: http://www.ti.com/lit/ds/symlink/ina181.pdf?src-supplier=Digikey; ComponentLink2Description: http://www.ti.com/lit/ds/symlink/ina181.pdf?src-supplier=Digikey
footprint SOT23-6
pins: 1 OUT, 2 GND, 3 IN+, 4 IN-, 5 REF, 6 VS (power)

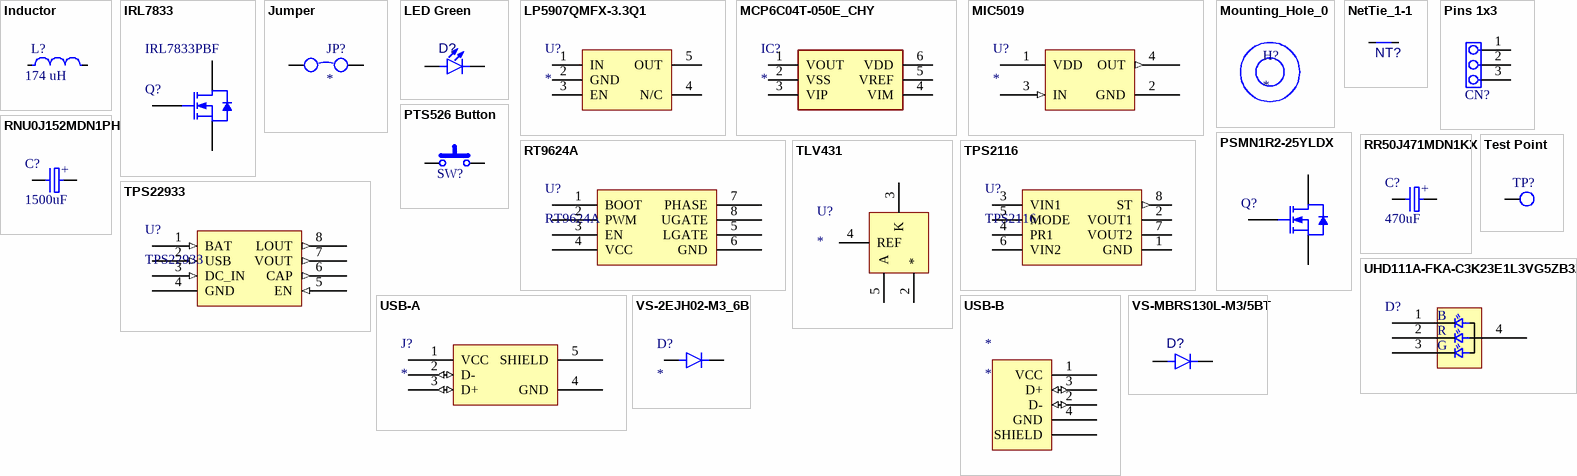
[diagram p1: symbols Inductor to VS-MBRS130L-M3/5BT]

## Inductor
designator L?  value 174 uH
Hand made inductance
footprint COIL_HANDMADE (35 x 15 mm coil)
footprint COIL_HANDMADE _LYING (35 x 15 mm coil)
pins: 1, 2

## IRL7833
designator Q?  Manufacturer Part Number: IRL7833PBF  (hidden comment: *)
Power Field-Effect Transistor, 75A I(D), 30V, 0.0038ohm, 1-Element, N-Channel, Silicon, Metal-oxide Semiconductor FET, TO-220AB; Manufacturer: Infineon; Package Body Material: Plastic; Case Connection: DRAIN; Drain Current-Max (Abs) (ID): 150A; Drain-source On Resistance-Max: 3.8mR; Number of Elements: 1; Operating Mode: ENHANCEMENT MODE; Power Dissipation-Max (Abs): 140W; Pulsed Drain Current-Max (IDM): 600A; Surface Mount: No; Transistor Application: SWITCHING; Avalanche Energy Rating (Eas): 560mJ; Qualification Status: Not Qualified; Supplier: Mouser; Supplier Part Number: 942-IRL7833PBF; RoHS: Yes; Category: MOSFETs; Stock: 1122; Pricing: 1=1.91, 10=1.58, 50=1.58, 100=1.3, 1000=1.29, 10000=1.29 (USD); Pins: 3; Package Shape: Rectangular; Transistor Element Material: SILICON; Max Operating Temperature: 175°C; Polarity/Channel Type: N-CHANNEL; Drain Current-Max (ID): 75A; DS Breakdown Voltage-Min: 30V; FET Technology: METAL-OXIDE SEMICONDUCTOR; JESD-30 Code: R-PSFM-T3; Package Style: FLANGE MOUNTMeter; Terminal Form: Through Hole; Terminal Position: SINGLE; RoHS Compliant: Yes; JEDEC-95 Code: TO-220AB; Reach SVHC Compliant: Yes; ComponentLink1URL: https://datasheet.ciiva.com:443/pdfs/VipMasterIC/IC/IRSD/IRSDS10955/IRSDS10955-1.pdf?src-supplier=IHS+Markit; ComponentLink1Description: https://datasheet.ciiva.com:443/pdfs/VipMasterIC/IC/IRSD/IRSDS10955/IRSDS10955-1.pdf?src-supplier=IHS+Markit; ComponentLink2URL: https://www.alliedelec.com/m/d/e45b9dddda0c62cdfc43ef0f9d1ac330.pdf?src-supplier=Allied+Electronics; ComponentLink2Description: https://www.alliedelec.com/m/d/e45b9dddda0c62cdfc43ef0f9d1ac330.pdf?src-supplier=Allied+Electronics; ComponentLink3URL: http://datasheet.octopart.com/IRL7833PBF-Infineon-datasheet-7823640.pdf?src-supplier=Mouser; ComponentLink3Description: http://datasheet.octopart.com/IRL7833PBF-Infineon-datasheet-7823640.pdf?src-supplier=Mouser; ComponentLink4URL: http://datasheet.octopart.com/IRL7833PBF-Infineon-datasheet-7823640.pdf?src-supplier=Distrelec; ComponentLink4Description: http://datasheet.octopart.com/IRL7833PBF-Infineon-datasheet-7823640.pdf?src-supplier=Distrelec; ComponentLink5URL: http://datasheet.octopart.com/IRL7833PBF-Infineon-datasheet-7823640.pdf?src-supplier=Rs; ComponentLink5Description: http://datasheet.octopart.com/IRL7833PBF-Infineon-datasheet-7823640.pdf?src-supplier=Rs; ComponentLink6URL: http://www.farnell.com/datasheets/107887.pdf?src-supplier=Element14; ComponentLink6Description: http://www.farnell.com/datasheets/107887.pdf?src-supplier=Element14; ComponentLink7URL: http://datasheet.octopart.com/IRL7833PBF-Infineon-datasheet-7823640.pdf?src-supplier=Digikey; ComponentLink7Description: http://datasheet.octopart.com/IRL7833PBF-Infineon-datasheet-7823640.pdf?src-supplier=Digikey; ComponentLink8URL: http://datasheet.octopart.com/IRL7833PBF-Infineon-datasheet-7823640.pdf?src-supplier=Avnet; ComponentLink8Description: http://datasheet.octopart.com/IRL7833PBF-Infineon-datasheet-7823640.pdf?src-supplier=Avnet; ComponentLink9URL: https://datasheet.octopart.com/IRL7833PBF-Infineon-datasheet-7823640.pdf?src-supplier=Farnell; ComponentLink9Description: https://datasheet.octopart.com/IRL7833PBF-Infineon-datasheet-7823640.pdf?src-supplier=Farnell; ComponentLink10URL: http://datasheet.octopart.com/IRL7833PBF-Infineon-datasheet-7823640.pdf?src-supplier=Future+Electronics; ComponentLink10Description: http://datasheet.octopart.com/IRL7833PBF-Infineon-datasheet-7823640.pdf?src-supplier=Future+Electronics; ComponentLink11URL: https://datasheet.octopart.com/IRL7833PBF-International-Rectifier-datasheet-26461.pdf?src-supplier=Newark; ComponentLink11Description: https://datasheet.octopart.com/IRL7833PBF-International-Rectifier-datasheet-26461.pdf?src-supplier=Newark; ComponentLink12URL: http://datasheet.octopart.com/IRL7833PBF-Infineon-datasheet-7823640.pdf?src-supplier=TME; ComponentLink12Description: http://datasheet.octopart.com/IRL7833PBF-Infineon-datasheet-7823640.pdf?src-supplier=TME; ComponentLink13URL: http://datasheet.octopart.com/IRL7833PBF-Infineon-datasheet-7823640.pdf?src-supplier=NAC+Semi; ComponentLink13Description: http://datasheet.octopart.com/IRL7833PBF-Infineon-datasheet-7823640.pdf?src-supplier=NAC+Semi
footprint TO-220 (FM, 3-Leads, Body 10.03x8.98mm, Pitch 2.54mm)
pins: 1 G, 2 S, 3 D

## Jumper
designator JP?
2 pin jumper connection
footprint PIN-1X2 (2.54mm)
pins: 1, 2

## LED Green
designator D?
Single Color LED, Bright Green, Water Clear, 1.1mm; Manufacturer: Wurth Electronics; Manufacturer Part Number: 150060VS75000; Shape: Rectangular; Forward Current: 30mA; Luminous Intensity-Nom: 40mcd; Channels: 1; Viewing Angle: 140°; Overall Height: 0.7mm; Supplier: Mouser; Supplier Part Number: 710-150060VS75000; RoHS: Yes; Category: LEDs; Stock: 96633; Pricing: 1=0.15, 10=0.15, 50=0.142, 100=0.122, 1000=0.116, 10000=0.116 (USD); Mounting Technology: Surface Mount; Pins: 2; Color: Green; Min Operating Temperature: -40°C; Max Operating Temperature: 85°C; Lens Style: WATER CLEAR; Optoelectronic Device Type: SINGLE COLOR LED; Packaging: Tape and Reel; Size: 1.1mm; Terminal Pitch: 1.6mm; Reach SVHC Compliant: Yes; RoHS Compliant: Yes; ComponentLink1URL: https://datasheet.ciiva.com:443/pdfs/VipMasterIC/IC/MIDC/MIDC-S-A0007768636/MIDC-S-A0007768636-1.pdf?src-supplier=IHS+Markit; ComponentLink1Description: https://datasheet.ciiva.com:443/pdfs/VipMasterIC/IC/MIDC/MIDC-S-A0007768636/MIDC-S-A0007768636-1.pdf?src-supplier=IHS+Markit; ComponentLink2URL: https://datasheet.ciiva.com/29562/150060vs75000-29562919.pdf?src-supplier=Digikey; ComponentLink2Description: https://datasheet.ciiva.com/29562/150060vs75000-29562919.pdf?src-supplier=Digikey
footprint LED0603 (LEDC1608X80N)
pins: 1 K, 2 A

## LP5907QMFX-3.3Q1
designator U?
Integrated Circuit; Manufacturer_Name: Texas Instruments; Manufacturer_Part_Number: LP5907QMFX-3.3Q1; Datasheet Link: http://www.ti.com/lit/gpn/lp5907-q1; Height: 1.45mm; Mouser Part Number: 595-LP5907QMFX-3.3Q1; Mouser Price/Stock: https://www.mouser.co.uk/ProductDetail/Texas-Instruments/LP5907QMFX-3.3Q1?qs=asCBFxFfL1RsL2VYqGFsBQ%3D%3D; Arrow Part Number: LP5907QMFX-3.3Q1; Arrow Price/Stock: https://www.arrow.com/en/products/lp5907qmfx-3.3q1/texas-instruments
footprint SOT23-5
pins: 1 IN, 2 GND, 3 EN, 4 N/C, 5 OUT

## MCP6C04T-050E_CHY
designator IC?
Integrated Circuit
footprint SOT23-6
pins: 1 VOUT, 2 VSS, 3 VIP, 4 VIM, 5 VREF, 6 VDD

## MIC5019
designator U?
footprint QFN-4 (UDFN (FT))
pins: 1 VDD (power), 2 GND, 3 IN (in), 4 OUT (out)

## Mounting_Hole_0
designator H?
Mounting hole with no connectivity.
footprint MOUNTING_HOLE_M3 (Mounting hole for M3 screws.)

## NetTie_1-1
designator NT?  (value not drawn)  (net tie, no BOM)
NetTie 1 -> 1; ID: 22; Value: NetTie 1-1 0.2mm; Inventory_Category: Other; Part Class: NetTie; Technology: SMT
footprint NETTIE_1-0.2MM
footprint NETTIE_1.85MM
pins: 1, 2

## Pins 1x3
designator CN?
1x3 2.54mm; Part Class: Connector; Order Code: 855-M50-3530342; CompType: M50-3530342; Distributor: Mouser; Package: SMD 1.27mm
footprint PIN-1X3 (2.54mm)
pins: 1, 2, 3

## PSMN1R2-25YLDX
designator Q?, comment N-MOSFET  (value not drawn)
Power Field-Effect Transistor, 100A I(D), 25V, 0.00169ohm, 1-Element, N-Channel, Silicon, Metal-oxide Semiconductor FET, MO-235; Manufacturer: Nexperia; Manufacturer Part Number: PSMN1R2-25YLDX; Package Body Material: Plastic; Additional Feature: HIGH RELIABILITY; Avalanche Energy Rating (Eas): 1293mJ; Case Connection: DRAIN; Drain-source On Resistance-Max: 1.69mR; Number of Elements: 1; Operating Mode: ENHANCEMENT MODE; Pulsed Drain Current-Max (IDM): 1.163kA; Transistor Application: SWITCHING; Reference Standard: IEC-60134; Supplier: Mouser; Supplier Part Number: 771-PSMN1R2-25YLDX; RoHS: Yes; Category: Transistors; Stock: 20971; Pricing: 1=0.7, 10=0.694, 50=0.694, 100=0.663, 1000=0.483, 10000=0.481 (USD); Pins: 4; Package Shape: Rectangular; Transistor Element Material: SILICON; Polarity/Channel Type: N-CHANNEL; Drain Current-Max (ID): 100A; DS Breakdown Voltage-Min: 25V; FET Technology: METAL-OXIDE SEMICONDUCTOR; Package Style: SMALL OUTLINEMeter; Surface Mount: Yes; Terminal Form: Gull Wing; Terminal Position: SINGLE; JEDEC-95 Code: MO-235; Reach SVHC Compliant: No; RoHS Compliant: Yes; ComponentLink1URL: https://datasheet.ciiva.com:443/pdfs/VipMasterIC/IC/NEXP/NEXP-S-A0003107917/NEXP-S-A0003107917-1.pdf?src-supplier=IHS+Markit; ComponentLink1Description: https://datasheet.ciiva.com:443/pdfs/VipMasterIC/IC/NEXP/NEXP-S-A0003107917/NEXP-S-A0003107917-1.pdf?src-supplier=IHS+Markit
footprint SOT-669-5 (LFPAK56; PowerSO8 (SOT669))
pins: 1 G, 2 S, 3 D

## PTS526 Button
designator SW?
PTS526 SMG15J SMTR2 LFS; Part Class: Other; CompType: DTSM 32N/SMD; Note: DIPTRONICS; Distributor: RET; Order Code: 52-01-71
footprint PTS526 SMG15J SMTR2 LFS (Tactile Switches 50mA 12VDC, 5.2x5.2mm, 1.5mm H, metal actuator)
pins: 1, 2

## RNU0J152MDN1PH
designator C?  value 1500uF
Aluminum Electrolytic Capacitor, Polarized, Aluminum (solid Polymer), 6.3V, 20% +Tol, 20% -Tol, 1500uF, Through Hole Mount; Manufacturer: Nichicon; Manufacturer Part Number: RNU0J152MDN1PH; Manufacturer Series: NU; Dielectric Material: Aluminium; ESR (Equivalent Series Resistance): 7mR; Leakage Current: 1.89mA; Ripple Current: 6.1A; Tan Delta: 0.08; Supplier: Future Electronics; Supplier Part Number: 4133684; RoHS: Yes; Category: Polymer Capacitors; Stock: 1000; Pricing: 500=0.37, 1000=0.36, 2000=0.35, 2500=0.35, 7500=0.335 (USD); Mounting Technology: Through Hole; Pins: 2; Package Shape: Cylindrical; Terminal Finish: Tin; Min Operating Temperature: -55°C; Max Operating Temperature: 105°C; JESD-609 Code: e3; Polarity: Polarized; Capacitor Type: Aluminium; Tolerance  (fill in as +-): 20%; Package Style: RadialMeter; Packaging: Tape and Reel; Tolerance (fill in as +-): 20%; Rated DC Voltage (URdc): 6.3V; Series: NU; Termination: Wire; Diameter: 10mm; Length: 12.5mm; Terminal Pitch: 5mm; Reach SVHC Compliant: Yes; RoHS Compliant: Yes; ComponentLink1URL: https://datasheet.ciiva.com:443/pdfs/VipMasterIC/IC/NICH/NICH-S-A0001375683/NICH-S-A0001375683-1.pdf?src-supplier=IHS+Markit; ComponentLink1Description: https://datasheet.ciiva.com:443/pdfs/VipMasterIC/IC/NICH/NICH-S-A0001375683/NICH-S-A0001375683-1.pdf?src-supplier=IHS+Markit; ComponentLink2URL: https://datasheet.ciiva.com/6316/2013fpcap-catalog-nu-6316953.pdf?src-supplier=Digikey; ComponentLink2Description: https://datasheet.ciiva.com/6316/2013fpcap-catalog-nu-6316953.pdf?src-supplier=Digikey; ComponentLink3URL: https://datasheet.ciiva.com/6316/2013fpcap-catalog-nu-6316955.pdf?src-supplier=Digikey; ComponentLink3Description: https://datasheet.ciiva.com/6316/2013fpcap-catalog-nu-6316955.pdf?src-supplier=Digikey
footprint Aluminium Capacitor 10x12.5
pins: 1 C, 2 A
text: +

## RR50J471MDN1KX
designator C?, comment 470uF
Aluminum Electrolytic Capacitor, Aluminum (solid Polymer); Manufacturer: Nichicon; Manufacturer Part Number: RR50J471MDN1KX; Dielectric Material: Aluminium; Supplier: Mouser; Supplier Part Number: 647-RR50J471MDN1KX; RoHS: Yes; Category: Polymer Capacitors; Stock: 272; Pricing: 1=0.65, 10=0.409, 50=0.409, 100=0.334, 1000=0.265, 10000=0.265 (USD); Pins: 2; Capacitor Type: Aluminium; Reach SVHC Compliant: Yes; RoHS Compliant: Yes; ComponentLink1URL: https://datasheet.ciiva.com:443/pdfs/VipMasterIC/IC/NICH/NICH-S-A0003527494/NICH-S-A0003527494-1.pdf?src-supplier=IHS+Markit; ComponentLink1Description: https://datasheet.ciiva.com:443/pdfs/VipMasterIC/IC/NICH/NICH-S-A0003527494/NICH-S-A0003527494-1.pdf?src-supplier=IHS+Markit; ComponentLink2URL: http://www.mouser.com/ds/2/293/e-rr5-875910.pdf?src-supplier=Mouser; ComponentLink2Description: http://www.mouser.com/ds/2/293/e-rr5-875910.pdf?src-supplier=Mouser; ComponentLink3URL: http://nichicon-us.com/english/products/pdfs/e-rr5.pdf?src-supplier=Digikey; ComponentLink3Description: http://nichicon-us.com/english/products/pdfs/e-rr5.pdf?src-supplier=Digikey; Value: 470uF
footprint Aluminium Capacitor 10x12.5
pins: 1 C, 2 A
text: +

## RT9624A
designator U?
footprint SOP-8 (SOP/SOIC, 1.27mm, 8 pins)
pins: 1 BOOT, 2 PWM, 3 EN, 4 VCC, 5 LGATE, 6 GND, 7 PHASE, 8 UGATE

## Test Point
designator TP?  (value not drawn)
Test Point
footprint TP-1.5HOLE
pins: 1

## TLV431
designator U?
Three Terminal Voltage Reference, 1 Output, 1.24V, Trim/Adjustable, BIPolar, PDSO5; Manufacturer: Texas Instruments; Manufacturer Part Number: TLV431CDBVR; Package Body Material: Plastic; Channels: 1; Max Output current: 10mA; Max Output Voltage: 1.258V; Min Output Voltage: 1.222V; Package Equivalence Code: TSOP5/6,.11,37; Max Supply Voltage: 6V; Temp Coef of Voltage-Max: 138.249ppm/°C; Trim/Adjustable Output: Yes; Qualification Status: Not Qualified; Supplier: Mouser; Supplier Part Number: 595-TLV431CDBVR; RoHS: Yes; Category: Voltage References; Stock: 5017; Pricing: 1=0.34, 10=0.274, 50=0.274, 100=0.203, 1000=0.138, 10000=0.137 (USD); Case/Package: LSSOP; Pins: 5; Package Shape: Rectangular; Terminal Finish: Nickel; Min Operating Temperature: 0°C; Max Operating Temperature: 70°C; JESD-609 Code: e4; Throw Configuration: THREE TERMINAL VOLTAGE REFERENCE; JESD-30 Code: R-PDSO-G5; Moisture Sensitivity Level: 1; Number of Outputs: 1; Nominal Output Voltage: 1.24V; Package Style: SMALL OUTLINE, LOW PROFILE, SHRINK PITCHMeter; Peak Reflow Temperature (Cel): 260°C; Min Supply Voltage: 1.24V; Surface Mount: Yes; Technology: BIPOLAR; Terminal Form: Gull Wing; Terminal Position: DUAL; Length: 2.9mm; Width: 1.6mm; Height - Seated (Max): 1.45mm; Terminal Pitch: 0.95mm; Temperature Grade: COMMERCIAL; Reach SVHC Compliant: Yes; RoHS Compliant: Yes; ComponentLink1URL: https://www.ti.com:443/lit/ds/symlink/tlv431.pdf?src-supplier=IHS+Markit; ComponentLink1Description: https://www.ti.com:443/lit/ds/symlink/tlv431.pdf?src-supplier=IHS+Markit; ComponentLink2URL: https://datasheet.ciiva.com/4065/29560336s9640988n7713-4065870.pdf?src-supplier=Arrow+Electronics; ComponentLink2Description: https://datasheet.ciiva.com/4065/29560336s9640988n7713-4065870.pdf?src-supplier=Arrow+Electronics; ComponentLink3URL: https://datasheet.ciiva.com/2006/tlv431a-2006342.pdf?src-supplier=Digikey; ComponentLink3Description: https://datasheet.ciiva.com/2006/tlv431a-2006342.pdf?src-supplier=Digikey; ComponentLink4URL: https://datasheet.ciiva.com/2006/tlv431a-2006343.pdf?src-supplier=Digikey; ComponentLink4Description: https://datasheet.ciiva.com/2006/tlv431a-2006343.pdf?src-supplier=Digikey; ComponentLink5URL: https://datasheet.ciiva.com/2006/tlv431a-2006344.pdf?src-supplier=Digikey; ComponentLink5Description: https://datasheet.ciiva.com/2006/tlv431a-2006344.pdf?src-supplier=Digikey
footprint SOT23-5
pins: 2 *, 3 K, 4 REF, 5 A

## TPS2116
designator U?
footprint SOTFL50P160X60-8N
pins: 1 GND, 2 VOUT1, 3 VIN1, 4 PR1, 5 MODE, 6 VIN2, 7 VOUT2, 8 ST (out)

## TPS22933
designator U?
Triple-Input Power Multiplexer With Auto-Select and Low Drop-Out Voltage Regulator
footprint X2QFN-8 (QFN, 8-Leads, Body 1.5x1.5mm, Pitch 0.5mm, TI Recommended)
pins: 1 BAT (in), 2 USB (in), 3 DC_IN (in), 4 GND, 5 EN (in), 6 CAP (out), 7 VOUT (out), 8 LOUT (out)

## UHD111A-FKA-C3K23E1L3VG5ZB3Z3
designator D?  (value not drawn)
footprint UHD111A-FKA-C3K23E1L3VG5ZB3Z3 (RGB 1x1mm LED)
pins: 1, 2, 3, 4
text: B; R; G

## USB-A
designator J?
USB Connector; Manufacturer: Bel; Manufacturer Part Number: SS-52100-001; Supplier: Mouser; Supplier Part Number: 530-SS-52100-001; RoHS: Yes; Category: Connectors; Stock: 6440; Pricing: 1=0.57, 10=0.346, 50=0.346, 100=0.286, 1000=0.252, 10000=0.252 (USD); RoHS Compliant: Yes; ComponentLink1URL: https://datasheet.ciiva.com:443/pdfs/VipMasterIC/IC/BELF/BELF-S-A0007110717/BELF-S-A0007110717-1.pdf?src-supplier=IHS+Markit; ComponentLink1Description: https://datasheet.ciiva.com:443/pdfs/VipMasterIC/IC/BELF/BELF-S-A0007110717/BELF-S-A0007110717-1.pdf?src-supplier=IHS+Markit; ComponentLink2URL: http://www.farnell.com/datasheets/2813579.pdf?src-supplier=Farnell; ComponentLink2Description: http://www.farnell.com/datasheets/2813579.pdf?src-supplier=Farnell; ComponentLink3URL: https://belfuse.com/resources/drawings/stewartconnector/dr-stw-ss-52100-001.pdf?src-supplier=Digikey; ComponentLink3Description: https://belfuse.com/resources/drawings/stewartconnector/dr-stw-ss-52100-001.pdf?src-supplier=Digikey; ComponentLink4URL: http://www.farnell.com/datasheets/2813579.pdf?src-supplier=Newark; ComponentLink4Description: http://www.farnell.com/datasheets/2813579.pdf?src-supplier=Newark; ComponentLink5URL: https://datasheet.octopart.com/SS-52100-001-Bel-Fuse-datasheet-137355466.pdf?src-supplier=Sager+Electronics; ComponentLink5Description: https://datasheet.octopart.com/SS-52100-001-Bel-Fuse-datasheet-137355466.pdf?src-supplier=Sager+Electronics
footprint USB-A-FEMALE (SS-52100-001)
pins: 1 VCC (power), 2 D- (io), 3 D+ (io), 4 GND, 5 SHIELD

## USB-B
designator *
USB Connector
footprint USB-B-FEMALE (UJ2-BH-W2-TH)
pins: 0 SHIELD, 1 VCC (power), 2 D- (io), 3 D+ (io), 4 GND

## VS-2EJH02-M3_6B
designator D?
Diode; Manufacturer_Name: Vishay; Manufacturer_Part_Number: VS-2EJH02-M3/6B; Datasheet Link: http://www.vishay.com/docs/94881/vs-2ejh02-m3.pdf; Height: 1mm; Mouser Part Number: 78-VS-2EJH02-M3/6B; Mouser Price/Stock: https://www.mouser.com/Search/Refine.aspx?Keyword=78-VS-2EJH02-M3%2F6B; Arrow Part Number: VS-2EJH02-M3/6B; Arrow Price/Stock: https://www.arrow.com/en/products/vs-2ejh02-m36b/vishay
footprint SODFL5226X100N
pins: 1 K, 2 A

## VS-MBRS130L-M3/5BT
designator D?
Rectifier Diode, Schottky, 1 Phase, 1 Element, 30V V(RRM), Silicon; Manufacturer: Vishay Semiconductors; Manufacturer Part Number: VS-MBRS130L-M3/5BT; Package Body Material: Plastic; Additional Feature: FREE WHEELING DIODE; Number of Elements: 1; If: 1 A; Vf: 300 mV; Supplier: Mouser; Supplier Part Number: 78-VS-MBRS130L-M35BT; RoHS: Yes; Category: Rectifier Diodes; Stock: 107658; Pricing: 1=0.26, 10=0.211, 50=0.211, 100=0.15, 1000=0.105, 10000=0.08 (USD); Pins: 2; Diode Element Material: SILICON; Package Shape: Rectangular; Terminal Finish: Tin; Min Operating Temperature: -55°C; Max Operating Temperature: 125°C; JESD-609 Code: e3; Diode Type: RECTIFIER; JESD-30 Code: R-PDSO-C2; Moisture Sensitivity Level: 1; Package Style: SMALL OUTLINEMeter; Rep Pk Reverse Voltage-Max: 30V; Surface Mount: Yes; Technology: SCHOTTKY; Terminal Form: C BEND; Terminal Position: DUAL; RoHS Compliant: Yes; Reach SVHC Compliant: No; ComponentLink1URL: https://datasheet.ciiva.com:443/pdfs/VipMasterIC/IC/VISH/VISH-S-A0001785244/VISH-S-A0001785244-1.pdf?src-supplier=IHS+Markit; ComponentLink1Description: https://datasheet.ciiva.com:443/pdfs/VipMasterIC/IC/VISH/VISH-S-A0001785244/VISH-S-A0001785244-1.pdf?src-supplier=IHS+Markit; ComponentLink2URL: http://www.mouser.com/ds/2/427/vsmbrs130lm3-552915.pdf?src-supplier=Mouser; ComponentLink2Description: http://www.mouser.com/ds/2/427/vsmbrs130lm3-552915.pdf?src-supplier=Mouser; ComponentLink3URL: http://www.vishay.com/docs/95745/vsmbrs130lm3.pdf?src-supplier=Digikey; ComponentLink3Description: http://www.vishay.com/docs/95745/vsmbrs130lm3.pdf?src-supplier=Digikey; ComponentLink4URL: https://datasheet.octopart.com/VS-MBRS130L-M3-5BT-Vishay-datasheet-41960962.pdf?src-supplier=Future+Electronics; ComponentLink4Description: https://datasheet.octopart.com/VS-MBRS130L-M3-5BT-Vishay-datasheet-41960962.pdf?src-supplier=Future+Electronics; Vrrm: 30 V
footprint SMB (DO-214AA)
pins: 1 K, 2 A